# Altium schematic symbol library PMIC.SchLib: 6 symbols
Pins are listed as number, name and electrical type; pins without a type are passive.

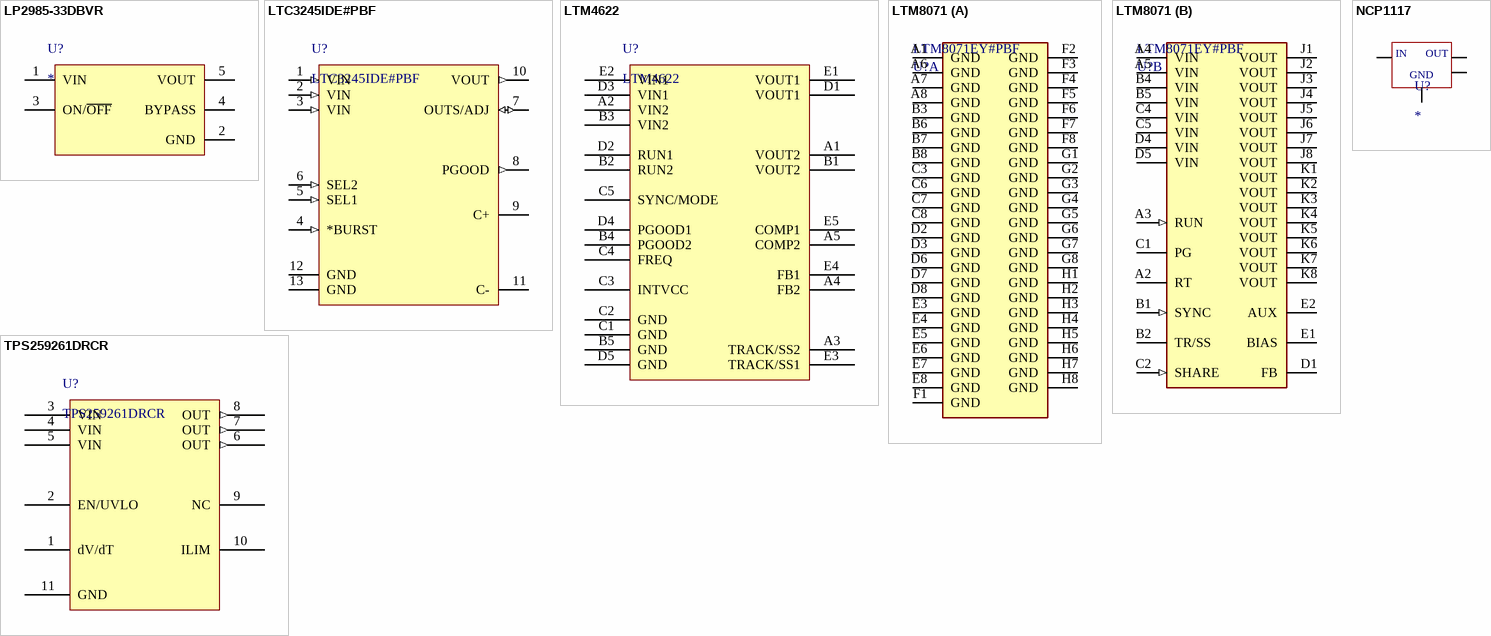
[diagram p0: symbols LP2985-33DBVR to TPS259261DRCR]

## LP2985-33DBVR
designator U?
150-mA, 16-V, low-dropout voltage regulator with enable 5-SOT-23 -40 to 125; MP: LP2985-33DBVR; Price: None; Value: *; Availability: Unavailable; Package: None
pins: 1 VIN, 2 GND, 3 ON/~{OFF}, 4 BYPASS, 5 VOUT

## LTC3245IDE#PBF
designator U?
Wide VIN Range, Low Noise, 250mA Charge Pump, Buck-Boost; Mfr_Name: Analog Devices Inc; Copyright: Copyright (C) 2023 Ultra Librarian. All rights reserved.; Full Part Number: LTC3245IDE#PBF; RefDes: RefDes; Type: DEV
footprint LTC3245IDE
pins: 1 VIN (in), 2 VIN (in), 3 VIN (in), 4 *BURST (in), 5 SEL1 (in), 6 SEL2 (in), 7 OUTS/ADJ (io), 8 PGOOD (out), 9 C+, 10 VOUT (out), 11 C-, 12 GND (power), 13 GND (power)

## LTM4622
designator U?
3.6V TO 20V, 2.5A; Full Part Number: LTM4622IY#PBF; Manufacturer: Analog Devices Inc.; Component Type: DC DC Converter; Operating Temperature Range: -40°C ~ 125°C
footprint LTM4622
pins: A1 VOUT2, A2 VIN2, A3 TRACK/SS2, A4 FB2, A5 COMP2, B1 VOUT2, B2 RUN2, B3 VIN2, B4 PGOOD2, B5 GND, C1 GND, C2 GND, C3 INTVCC, C4 FREQ, C5 SYNC/MODE, D1 VOUT1, D2 RUN1, D3 VIN1, D4 PGOOD1, D5 GND, E1 VOUT1, E2 VIN1, E3 TRACK/SS1, E4 FB1, E5 COMP1

## LTM8071
designator U?, comment LTM8071EY#PBF
60VIN, 5A SILENT SWITCHER M REG; Manufacturer: Analog Devices; Output Type: AdjustableProgrammable; Output Current: 7.25A; Switching Frequency: 200-2200kHz; Number Of Outputs: 1; Min Supply Voltage: 3.6V; Max Duty Cycle: 80%; Switching Topology: Buck; Nominal Supply Current: 0.275-25mA; Max Supply Voltage: 60V; Standoff Height: 0.4mm; Output Voltage: 0.97-15V; Footprint Url: https://www.analog.com/media/en/package-pcb-resources/package/pkg_pdf/ltc-legacy-bga/05081997_b_bga80.pdf; Digikey Description: 60VIN, 5A SILENT SWITCHER M REG; Mouser Description: 60 Vin, 5A Silent Switcher M Reg; Height: 3.52mm; Automotive: No; Manufacturer Part Number: LTM8071EY#PBF; RoHS: TRUE; Device Class L3: Voltage Regulators - Switching; Ipc Land Pattern Name: BGA80C100P8X10_1125X900X332; Temperature: -40°C to +125°C; Category: IC; Package: BGA-80-05-08-1997; ComponentLink2Description: Datasheet; ComponentLink2URL: https://www.analog.com/media/en/technical-documentation/data-sheets/LTM8071.pdf; Device Class L2: Power Management ICs; Octopart: https://octopart.com/ltm8071ey%23pbf-analog+devices-96285089; Temperature Range High: +125°C; Lead Free: Yes; Temperature Range Low: -40°C; Device Class L1: Integrated Circuits (ICs)
footprint LTM8071EY
part A pins: A1 GND (power), A6 GND (power), A7 GND (power), A8 GND (power), B3 GND (power), B6 GND (power), B7 GND (power), B8 GND (power), C3 GND (power), C6 GND (power), C7 GND (power), C8 GND (power), D2 GND (power), D3 GND (power), D6 GND (power), D7 GND (power), D8 GND (power), E3 GND (power), E4 GND (power), E5 GND (power), E6 GND (power), E7 GND (power), E8 GND (power), F1 GND (power), F2 GND (power), F3 GND (power), F4 GND (power), F5 GND (power), F6 GND (power), F7 GND (power), F8 GND (power), G1 GND (power), G2 GND (power), G3 GND (power), G4 GND (power), G5 GND (power), G6 GND (power), G7 GND (power), G8 GND (power), H1 GND (power), H2 GND (power), H3 GND (power), H4 GND (power), H5 GND (power), H6 GND (power), H7 GND (power), H8 GND (power)
part B pins: A2 RT, A3 RUN (in), A4 VIN (power), A5 VIN (power), B1 SYNC (in), B2 TR/SS, B4 VIN (power), B5 VIN (power), C1 PG (oc), C2 SHARE (in), C4 VIN (power), C5 VIN (power), D1 FB, D4 VIN (power), D5 VIN (power), E1 BIAS (power), E2 AUX (power), J1 VOUT (power), J2 VOUT (power), J3 VOUT (power), J4 VOUT (power), J5 VOUT (power), J6 VOUT (power), J7 VOUT (power), J8 VOUT (power), K1 VOUT (power), K2 VOUT (power), K3 VOUT (power), K4 VOUT (power), K5 VOUT (power), K6 VOUT (power), K7 VOUT (power), K8 VOUT (power)

## NCP1117
designator U?
Linear Voltage Regulator IC 1 Output 1A DPAK; MP: NCP1117; MF: ON Semiconductor; Package: TO-252-3 ON Semiconductor; Price: None; Availability: Unavailable; SnapEDA_Link: https://www.snapeda.com/parts/NCP1117/ON%20Semiconductor/view-part/558520/?ref=snap; Value: *
footprint SOT223
pins: 1 GND, 2 OUT@1, 3 IN, TAB OUT@2
text: OUT

## TPS259261DRCR
designator U?
No Description Available; Mfr_Name: Texas Instruments; Copyright: Copyright (C) 2022 Ultra Librarian. All rights reserved.; Manufacturer_Part_Number: TPS259261DRCR; RefDes: RefDes; Type: DEV
footprint TPS259261DRCR
pins: 1 dV/dT, 2 EN/UVLO, 3 VIN, 4 VIN, 5 VIN, 6 OUT (out), 7 OUT (out), 8 OUT (out), 9 NC, 10 ILIM, 11 GND